# Altium footprint library RESC - RESistorChip.PcbLib: 41 footprints (part 1 of 3)
Each footprint in its own frame and in the unit in brackets; x right, y up, seen from the top. Pads: shape width x height; smd on the part's side, far side on the other; paste and mask are expansions set on the pad; w line width, h text height; cw(c..) or ccw(c..) is an arc to the next point about the centre after c.
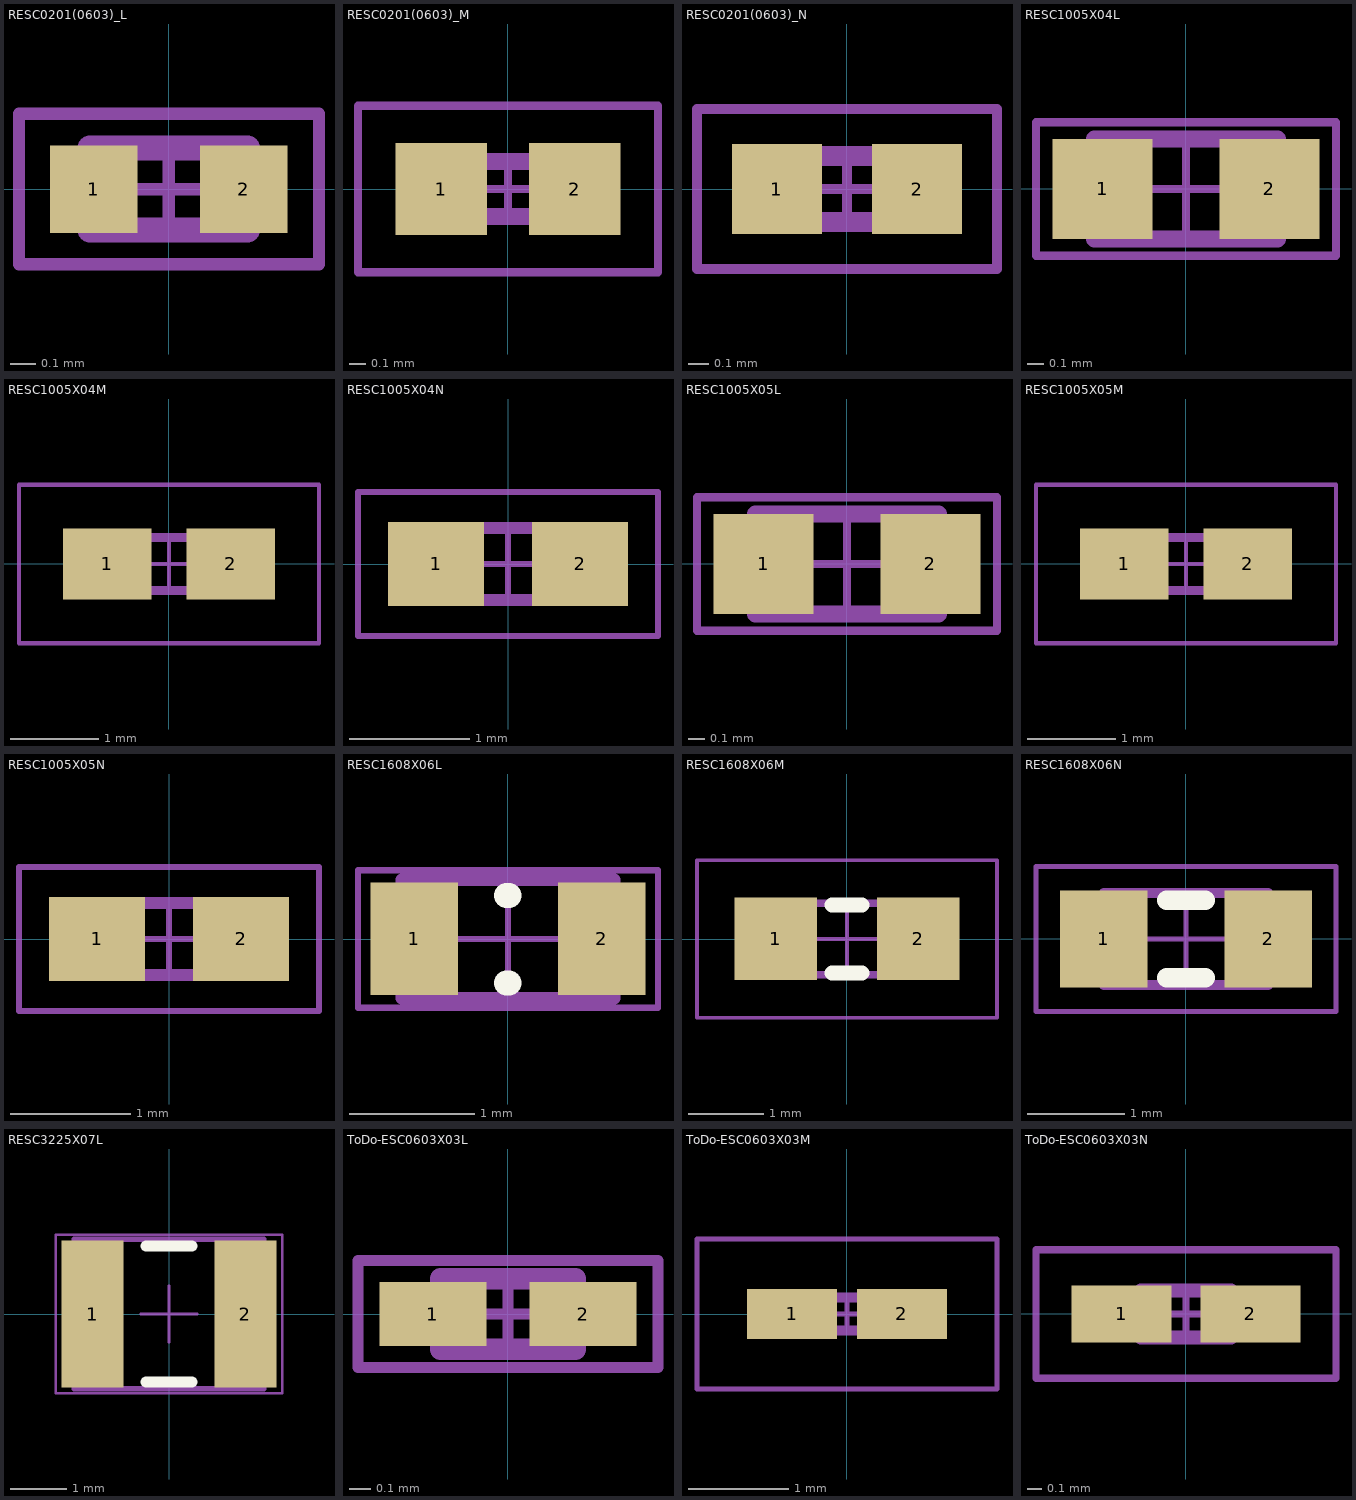
[diagram p0: the footprints below, top view; thin cyan lines are the x and y axes]

## RESC0201(0603)_L [mm] "Chip Resistor, Body 0.6x0.3mm, IPC High Density"
height 0.3
pads (2):
  rect 0.35x0.35 smd: 1(-0.3,0) 2(0.3,0)
TopBody:
  lines w0.1: -0.315,-0.165 -0.315,0.165 0.315,0.165 0.315,-0.165 -0.315,-0.165
TopCourtyard:
  lines w0.05: -0.165,0 0.165,0 ; 0,-0.165 0,0.165 ; -0.6,-0.3 -0.6,0.3 0.6,0.3 0.6,-0.3 -0.6,-0.3
3D body: height 0.3, standoff 0, extent -0.314,-0.164 -0.17,0.165
3D body: height 0.3, standoff 0, extent -0.17,-0.164 0.171,0.165
3D body: height 0.3, standoff 0, extent 0.171,-0.164 0.315,0.165

## RESC0201(0603)_M [mm] "Chip Resistor, Body 0.6x0.3mm, IPC Low Density"
height 0.3
pads (2):
  rect 0.55x0.55 smd: 1(-0.4,0) 2(0.4,0)
TopBody:
  lines w0.1: -0.315,-0.165 -0.315,0.165 0.315,0.165 0.315,-0.165 -0.315,-0.165
TopCourtyard:
  lines w0.05: -0.165,0 0.165,0 ; 0,-0.165 0,0.165 ; -0.9,-0.5 -0.9,0.5 0.9,0.5 0.9,-0.5 -0.9,-0.5
3D body: height 0.3, standoff 0, extent -0.314,-0.164 -0.17,0.165
3D body: height 0.3, standoff 0, extent -0.17,-0.164 0.171,0.165
3D body: height 0.3, standoff 0, extent 0.171,-0.164 0.315,0.165

## RESC0201(0603)_N [mm] "Chip Resistor, Body 0.6x0.3mm, IPC Medium Density"
height 0.3
pads (2):
  rect 0.45x0.45 smd: 1(-0.35,0) 2(0.35,0)
TopBody:
  lines w0.1: -0.315,-0.165 -0.315,0.165 0.315,0.165 0.315,-0.165 -0.315,-0.165
TopCourtyard:
  lines w0.05: -0.165,0 0.165,0 ; 0,-0.165 0,0.165 ; -0.75,-0.4 -0.75,0.4 0.75,0.4 0.75,-0.4 -0.75,-0.4
3D body: height 0.3, standoff 0, extent -0.314,-0.164 -0.17,0.165
3D body: height 0.3, standoff 0, extent -0.17,-0.164 0.171,0.165
3D body: height 0.3, standoff 0, extent 0.171,-0.164 0.315,0.165

## RESC1005X04L [mm] "Chip Resistor, Body 1.1x0.5mm, IPC High Density, EIA 0402"
height 0.4
pads (2):
  rect 0.6x0.6 smd: 1(-0.5,0) 2(0.5,0)
TopBody:
  lines w0.1: -0.55,-0.3 -0.55,0.3 0.55,0.3 0.55,-0.3 -0.55,-0.3
TopCourtyard:
  lines w0.05: -0.3,0 0.3,0 ; 0,-0.3 0,0.3 ; -0.9,-0.4 -0.9,0.4 0.9,0.4 0.9,-0.4 -0.9,-0.4
3D body: height 0.4, standoff 0, extent 0.25,-0.3 0.55,0.3
3D body: height 0.4, standoff 0, extent -0.25,-0.3 0.25,0.3
3D body: height 0.4, standoff 0, extent -0.55,-0.3 -0.25,0.3

## RESC1005X04M [mm] "Chip Resistor, Body 1.1x0.5mm, IPC Low Density, EIA 0402"
height 0.4
pads (2):
  rect 1x0.8 smd: 1(-0.7,0) 2(0.7,0)
TopBody:
  lines w0.1: -0.55,-0.3 -0.55,0.3 0.55,0.3 0.55,-0.3 -0.55,-0.3
TopCourtyard:
  lines w0.05: -0.3,0 0.3,0 ; 0,-0.3 0,0.3 ; -1.7,-0.9 1.7,-0.9 1.7,0.9 -1.7,0.9 -1.7,-0.9
3D body: height 0.4, standoff 0, extent 0.25,-0.3 0.55,0.3
3D body: height 0.4, standoff 0, extent -0.25,-0.3 0.25,0.3
3D body: height 0.4, standoff 0, extent -0.55,-0.3 -0.25,0.3

## RESC1005X04N [mm] "Chip Resistor, Body 1.1x0.5mm, IPC Medium Density, EIA 0402"
height 0.4
pads (2):
  rect 0.8x0.7 smd: 1(-0.6,0) 2(0.6,0)
TopBody:
  lines w0.1: -0.55,-0.3 0.55,-0.3 0.55,0.3 -0.55,0.3 -0.55,-0.3
TopCourtyard:
  lines w0.05: -0.3,0 0.3,0 ; 0,-0.3 0,0.3 ; -1.25,-0.6 1.25,-0.6 1.25,0.6 -1.25,0.6 -1.25,-0.6
3D body: height 0.4, standoff 0, extent -0.55,-0.3 -0.25,0.3
3D body: height 0.4, standoff 0, extent -0.25,-0.3 0.25,0.3
3D body: height 0.4, standoff 0, extent 0.25,-0.3 0.55,0.3

## RESC1005X05L [mm] "Chip Resistor, Body 1.1x0.5mm, IPC High Density, EIA 0402"
height 0.5
pads (2):
  rect 0.6x0.6 smd: 1(-0.5,0) 2(0.5,0)
TopBody:
  lines w0.1: -0.55,-0.3 0.55,-0.3 0.55,0.3 -0.55,0.3 -0.55,-0.3
TopCourtyard:
  lines w0.05: -0.3,0 0.3,0 ; 0,-0.3 0,0.3 ; -0.9,-0.4 0.9,-0.4 0.9,0.4 -0.9,0.4 -0.9,-0.4
3D body: height 0.5, standoff 0, extent -0.55,-0.3 -0.25,0.3
3D body: height 0.5, standoff 0, extent -0.25,-0.3 0.25,0.3
3D body: height 0.5, standoff 0, extent 0.25,-0.3 0.55,0.3

## RESC1005X05M [mm] "Chip Resistor, Body 1.1x0.5mm, IPC Low Density, EIA 0402"
height 0.5
pads (2):
  rect 1x0.8 smd: 1(-0.7,0) 2(0.7,0)
TopBody:
  lines w0.1: -0.55,-0.3 0.55,-0.3 0.55,0.3 -0.55,0.3 -0.55,-0.3
TopCourtyard:
  lines w0.05: -0.3,0 0.3,0 ; 0,-0.3 0,0.3 ; -1.7,-0.9 -1.7,0.9 1.7,0.9 1.7,-0.9 -1.7,-0.9
3D body: height 0.5, standoff 0, extent -0.55,-0.3 -0.25,0.3
3D body: height 0.5, standoff 0, extent -0.25,-0.3 0.25,0.3
3D body: height 0.5, standoff 0, extent 0.25,-0.3 0.55,0.3

## RESC1005X05N [mm] "Chip Resistor, Body 1.1x0.5mm, IPC Medium Density, EIA 0402"
height 0.5
pads (2):
  rect 0.8x0.7 smd: 1(-0.6,0) 2(0.6,0)
TopBody:
  lines w0.1: -0.55,-0.3 0.55,-0.3 0.55,0.3 -0.55,0.3 -0.55,-0.3
TopCourtyard:
  lines w0.05: -0.3,0 0.3,0 ; 0,-0.3 0,0.3 ; -1.25,-0.6 -1.25,0.6 1.25,0.6 1.25,-0.6 -1.25,-0.6
3D body: height 0.5, standoff 0, extent -0.55,-0.3 -0.25,0.3
3D body: height 0.5, standoff 0, extent -0.25,-0.3 0.25,0.3
3D body: height 0.5, standoff 0, extent 0.25,-0.3 0.55,0.3

## RESC1608X06L [mm] "Chip Resistor, Body 1.6x0.8mm, IPC High Density, EIA 0603"
height 0.6
pads (2):
  rect 0.7x0.9 smd: 1(-0.75,0) 2(0.75,0)
Top Overlay:
  lines w0.2: -0.01,-0.35 0.01,-0.35 ; -0.01,0.35 0.01,0.35
TopBody:
  lines w0.1: -0.85,-0.475 -0.85,0.475 0.85,0.475 0.85,-0.475 -0.85,-0.475
TopCourtyard:
  lines w0.05: -0.475,0 0.475,0 ; 0,-0.475 0,0.475 ; -1.2,-0.55 -1.2,0.55 1.2,0.55 1.2,-0.55 -1.2,-0.55
3D body: height 0.6, standoff 0, extent -0.85,-0.475 -0.35,0.475
3D body: height 0.6, standoff 0, extent -0.35,-0.475 0.35,0.475
3D body: height 0.6, standoff 0, extent 0.35,-0.475 0.85,0.475

## RESC1608X06M [mm] "Chip Resistor, Body 1.6x0.8mm, IPC Low Density, EIA 0603"
height 0.6
pads (2):
  rect 1.1x1.1 smd: 1(-0.95,0) 2(0.95,0)
Top Overlay:
  lines w0.2: -0.2,-0.45 0.2,-0.45 ; -0.2,0.45 0.2,0.45
TopBody:
  lines w0.1: -0.85,-0.475 0.85,-0.475 0.85,0.475 -0.85,0.475 -0.85,-0.475
TopCourtyard:
  lines w0.05: -0.475,0 0.475,0 ; 0,-0.475 0,0.475 ; -2,-1.05 -2,1.05 2,1.05 2,-1.05 -2,-1.05
3D body: height 0.6, standoff 0, extent 0.35,-0.475 0.85,0.475
3D body: height 0.6, standoff 0, extent -0.35,-0.475 0.35,0.475
3D body: height 0.6, standoff 0, extent -0.85,-0.475 -0.35,0.475

## RESC1608X06N [mm] "Chip Resistor, Body 1.6x0.8mm, IPC Medium Density, EIA 0603"
height 0.6
pads (2):
  rect 0.9x1 smd: 1(-0.85,0) 2(0.85,0)
Top Overlay:
  lines w0.2: -0.2,-0.4 0.2,-0.4 ; -0.2,0.4 0.2,0.4
TopBody:
  lines w0.1: -0.85,-0.475 0.85,-0.475 0.85,0.475 -0.85,0.475 -0.85,-0.475
TopCourtyard:
  lines w0.05: -0.475,0 0.475,0 ; 0,-0.475 0,0.475 ; -1.55,-0.75 1.55,-0.75 1.55,0.75 -1.55,0.75 -1.55,-0.75
3D body: height 0.6, standoff 0, extent 0.35,-0.475 0.85,0.475
3D body: height 0.6, standoff 0, extent -0.35,-0.475 0.35,0.475
3D body: height 0.6, standoff 0, extent -0.85,-0.475 -0.35,0.475

## RESC3225X07L [mm] "Chip Resistor, Body 3.2x2.5mm, IPC High Density, EIA 1210"
height 0.7
pads (2):
  rect 1.1x2.6 smd: 1(-1.35,0) 2(1.35,0)
Top Overlay:
  lines w0.2: -0.4,-1.2 0.4,-1.2 ; -0.4,1.2 0.4,1.2
TopBody:
  lines w0.1: -1.675,-1.32 -1.675,1.32 1.675,1.32 1.675,-1.32 -1.675,-1.32
TopCourtyard:
  lines w0.05: -0.5,0 0.5,0 ; 0,-0.5 0,0.5 ; -2,-1.4 -2,1.4 2,1.4 2,-1.4 -2,-1.4
3D body: height 0.7, standoff 0, extent -1.675,-1.32 1.675,1.32

## ToDo-ESC0603X03L [mm] "Chip Resistor, Body 0.6x0.3mm, IPC High Density, EIA 0201"
height 0.3
pads (2):
  rect 0.5x0.3 smd: 1(-0.35,0) 2(0.35,0)
TopBody:
  lines w0.1: -0.315,-0.165 -0.315,0.165 0.315,0.165 0.315,-0.165 -0.315,-0.165
TopCourtyard:
  lines w0.05: -0.165,0 0.165,0 ; 0,-0.165 0,0.165 ; -0.7,-0.25 -0.7,0.25 0.7,0.25 0.7,-0.25 -0.7,-0.25
3D body: height 0.3, standoff 0, extent -0.315,-0.165 0.315,0.165

## ToDo-ESC0603X03M [mm] "Chip Resistor, Body 0.6x0.3mm, IPC Low Density, EIA 0201"
height 0.3
pads (2):
  rect 0.9x0.5 smd: 1(-0.55,0) 2(0.55,0)
TopBody:
  lines w0.1: -0.315,-0.165 -0.315,0.165 0.315,0.165 0.315,-0.165 -0.315,-0.165
TopCourtyard:
  lines w0.05: -0.165,0 0.165,0 ; 0,-0.165 0,0.165 ; -1.5,-0.75 -1.5,0.75 1.5,0.75 1.5,-0.75 -1.5,-0.75
3D body: height 0.3, standoff 0, extent -0.315,-0.165 0.315,0.165

## ToDo-ESC0603X03N [mm] "Chip Resistor, Body 0.6x0.3mm, IPC Medium Density, EIA 0201"
height 0.3
pads (2):
  rect 0.7x0.4 smd: 1(-0.45,0) 2(0.45,0)
TopBody:
  lines w0.1: -0.315,-0.165 0.315,-0.165 0.315,0.165 -0.315,0.165 -0.315,-0.165
TopCourtyard:
  lines w0.05: -0.165,0 0.165,0 ; 0,-0.165 0,0.165 ; -1.05,-0.45 1.05,-0.45 1.05,0.45 -1.05,0.45 -1.05,-0.45
3D body: height 0.3, standoff 0, extent -0.315,-0.165 0.315,0.165